# EAGLE library part DAC-MCP4726 (library ds_ic_peripherals)
12-Bit Voltage Output Digital-to-Analog Converter with EEPROM and I2C Interface
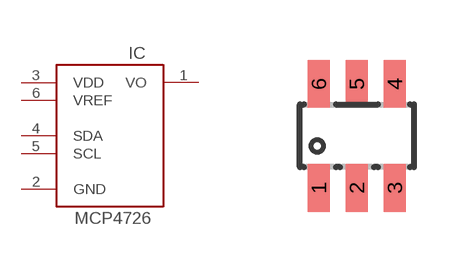
[diagram p25: symbol with the pads of SOT23-6; footprint SOT23-6]

Designator prefix IC

## DAC-MCP4726  [SOT23-6]
1  VO
2  GND
3  VDD
4  SDA
5  SCL
6  VREF

## Footprint SOT23-6 (pad centres in mm)
smd 0.55 x 1.2: 1 -0.95,-1.3; 2 0,-1.3; 3 0.95,-1.3; 4 0.95,1.3; 5 0,1.3; 6 -0.95,1.3